# EAGLE library part 9P (library con-dg55)
DEGSON DG55 CONNECTOR
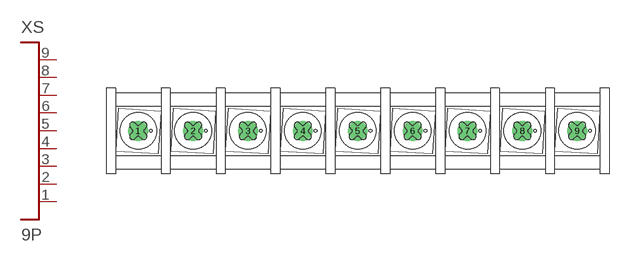
[diagram p3: symbol with the pads of DG55CB-9P-1; footprint DG55CB-9P-1]

Designator prefix XS

## 9P  [DG55CB-9P-1]
1  P$1
2  P$2
3  P$3
4  P$4
5  P$5
6  P$6
7  P$7
8  P$8
9  P$9

## Footprint DG55CB-9P-1 (pad centres in mm)
DG55
drill 1.8 pad 3.6: 1 -40,0; 2 -30,0; 3 -20,0; 4 -10,0; 5 0,0; 6 10,0; 7 20,0; 8 30,0; 9 40,0